# EAGLE library part AD8307ARZ (library Analog Devices)
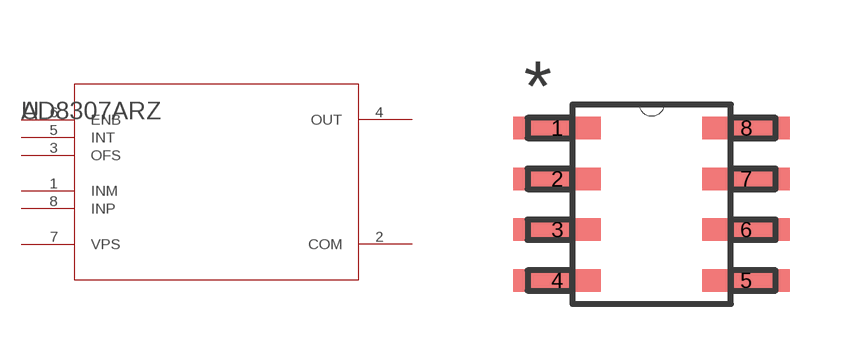
[diagram p2: symbol with the pads of R_8; footprint R_8]

Designator prefix U

## AD8307ARZ (MANUFACTURER_PART_NUMBER: AD8307ARZ; VENDOR: Vendor)  [R_8]
1  INM  pas
2  COM  pas
3  OFS  pas
4  OUT  pas
5  INT  pas
6  ENB  pas
7  VPS  pwr
8  INP  pas

## Footprint R_8 (pad centres in mm)
smd 2.184 x 0.559: 1 -2.362,1.905; 2 -2.362,0.635; 3 -2.362,-0.635; 4 -2.362,-1.905; 5 2.362,-1.905; 6 2.362,-0.635; 7 2.362,0.635; 8 2.362,1.905